# Altium schematic symbol library MCP73871_Battery charger.SchLib: 1 symbol
Pins are listed as number, name and electrical type; pins without a type are passive.

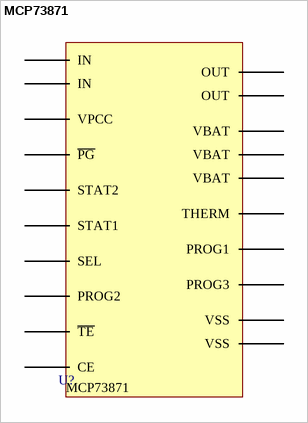
[diagram p0: symbol MCP73871]

## MCP73871
designator U?
Li-Ion/Li-Polymer Battery Charge; ComponentLink1Description: DATASHEET; ComponentLink1URL: https://ww1.microchip.com/downloads/en/DeviceDoc/MCP73871-Data-Sheet-20002090E.pdf
footprint MCP73871 (QFN, 20-Leads, Body 4,08x4,08mm, Pitch 0,50mm, Thermal Pad 4,00x2,20mm, IPC Medium Density)
pins: 1 OUT, 2 VPCC, 3 SEL, 4 PROG2, 5 THERM, 6 ~{PG}, 7 STAT2, 8 STAT1, 9 ~{TE}, 10 VSS, 11 VSS, 12 PROG3, 13 PROG1, 14 VBAT, 15 VBAT, 16 VBAT, 17 CE, 18 IN, 19 IN, 20 OUT